# Altium footprint library PcbLib1.PcbLib: 5 footprints
Each footprint in its own frame and in the unit in brackets; x right, y up, seen from the top. Pads: shape width x height; smd on the part's side, far side on the other; paste and mask are expansions set on the pad; w line width, h text height; cw(c..) or ccw(c..) is an arc to the next point about the centre after c.
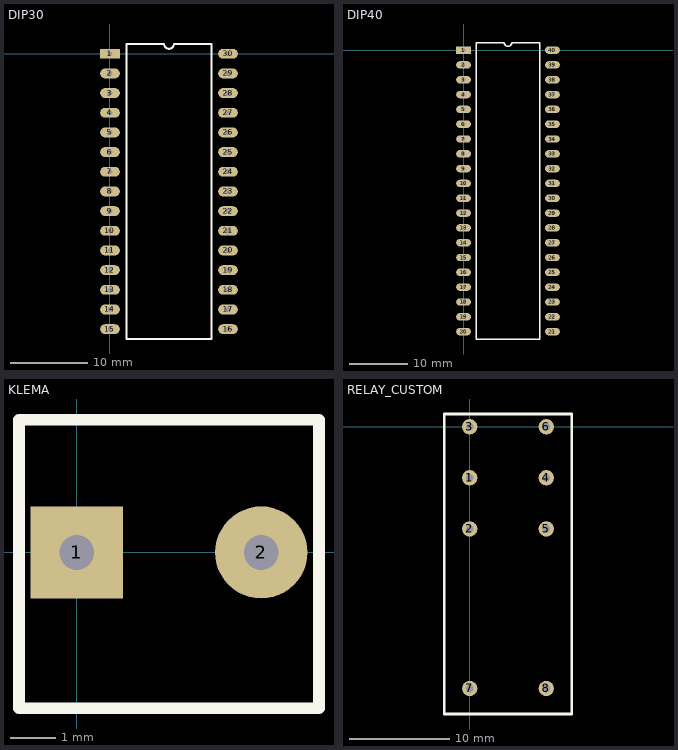
[diagram p0: the footprints below, top view; thin cyan lines are the x and y axes]

## DIP30 [mil]
pads (30):
  rect 100x50 hole 25: 1(0,0)
  oval 100x50 hole 25: 2(0,-100) 3(0,-200) 4(0,-300) 5(0,-400) 6(0,-500) 7(0,-600) 8(0,-700) 9(0,-800) 10(0,-900) 11(0,-1000) 12(0,-1100) 13(0,-1200) 14(0,-1300) 15(0,-1400) 16(600,-1400) 17(600,-1300) 18(600,-1200) 19(600,-1100) 20(600,-1000) 21(600,-900) 22(600,-800) 23(600,-700) 24(600,-600) 25(600,-500) 26(600,-400) 27(600,-300) 28(600,-200) 29(600,-100) 30(600,0)
Top Overlay:
  lines w10: 85,-1450 515,-1450 515,50 325,50 cw(c300,50) 275,50 85,50 85,-1450

## DIP40 [mil]
pads (40):
  rect 100x50 hole 25: 1(0,0)
  oval 100x50 hole 25: 2(0,-100) 3(0,-200) 4(0,-300) 5(0,-400) 6(0,-500) 7(0,-600) 8(0,-700) 9(0,-800) 10(0,-900) 11(0,-1000) 12(0,-1100) 13(0,-1200) 14(0,-1300) 15(0,-1400) 16(0,-1500) 17(0,-1600) 18(0,-1700) 19(0,-1800) 20(0,-1900) 21(600,-1900) 22(600,-1800) 23(600,-1700) 24(600,-1600) 25(600,-1500) 26(600,-1400) 27(600,-1300) 28(600,-1200) 29(600,-1100) 30(600,-1000) 31(600,-900) 32(600,-800) 33(600,-700) 34(600,-600) 35(600,-500) 36(600,-400) 37(600,-300) 38(600,-200) 39(600,-100) 40(600,0)
Top Overlay:
  lines w10: 85,-1950 85,50 275,50 ccw(c300,50) 325,50 515,50 515,-1950 85,-1950

## KLEMA [mil]
pads (2):
  rect 80x80 hole 30: 1(0,0)
  round 80 hole 30: 2(160,0)
Top Overlay:
  lines w10: -50,-135 210,-135 210,115 -50,115 -50,-135

## PCBComponent_1 [mil]

## RELAY_CUSTOM [mil]
height 600.39
pads (8):
  round 60 hole 30: 1(0,-200) 2(0,-400) 3(0,0) 4(300,-200) 5(300,-400) 6(300,0) 7(0,-1025) 8(300,-1025)
Top Overlay:
  lines w10: -100,-1125 30,-1125 280,-1125 400,-1125 400,0 400,50 -100,50 -100,0 -100,-1125